# EAGLE library part USB-MINIB (library pub)
Mini-USB Type B socket
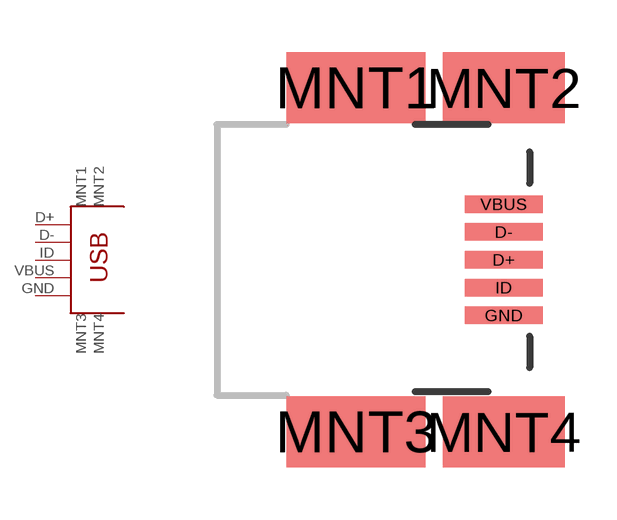
[diagram p1: symbol with the pads of USB-MINIB; footprint USB-MINIB]

Designator prefix -

## USB-MINIB-5PIN (RSCOMPONENTS: 6702654)  [USB-MINIB]
D+  D+
D-  D-
GND  GND
ID  ID
MNT1  MNT1
MNT2  MNT2
MNT3  MNT3
MNT4  MNT4
VBUS  VBUS

## Footprint USB-MINIB (pad centres in mm)
Molex 67503-1230 USB Mini-B Surface Mount Socket
smd 2.25 x 0.5: D+ 6.25,0; D- 6.25,0.8; GND 6.25,-1.6; ID 6.25,-0.8; VBUS 6.25,1.6
smd 4 x 2.05: MNT1 2,4.95; MNT3 2,-4.95
smd 3.5 x 2.05: MNT2 6.25,4.95; MNT4 6.25,-4.95